# EAGLE library part CD4044B (library HyTechDevices)
Texas Instruments CD4044B NAND R/S Latch CMOS Quad 3-State NAND R/S Latch
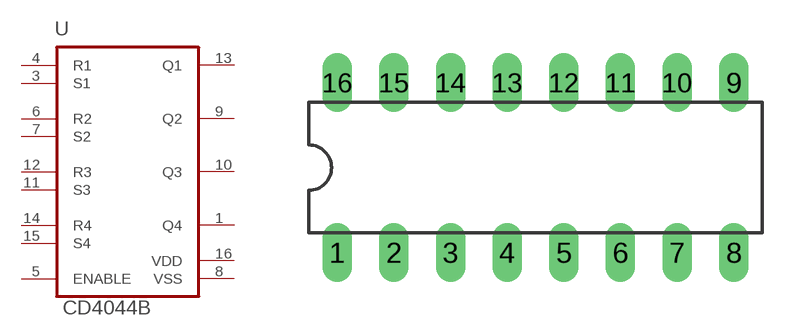
[diagram p41: symbol with the pads of DIL16; footprint DIL16]

Designator prefix -

## CD4044B  [DIL16]
1  Q4  out
3  S1  in
4  R1  in
5  ENABLE  in
6  R2  in
7  S2  in
8  VSS  out
9  Q2  out
10  Q3  out
11  S3  in
12  R3  in
13  Q1  out
14  R4  in
15  S4  in
16  VDD  in

## Footprint DIL16 (pad centres in mm)
Dual In Line Package
drill 0.813 long: 1 -8.89,-3.81; 2 -6.35,-3.81; 3 -3.81,-3.81; 4 -1.27,-3.81; 5 1.27,-3.81; 6 3.81,-3.81; 7 6.35,-3.81; 8 8.89,-3.81; 9 8.89,3.81; 10 6.35,3.81; 11 3.81,3.81; 12 1.27,3.81; 13 -1.27,3.81; 14 -3.81,3.81; 15 -6.35,3.81; 16 -8.89,3.81